# Altium schematic symbol library radxa_cm3_io_board_v1330_Library.SchLib: 84 symbols
Pins are listed as number, name and electrical type; pins without a type are passive.

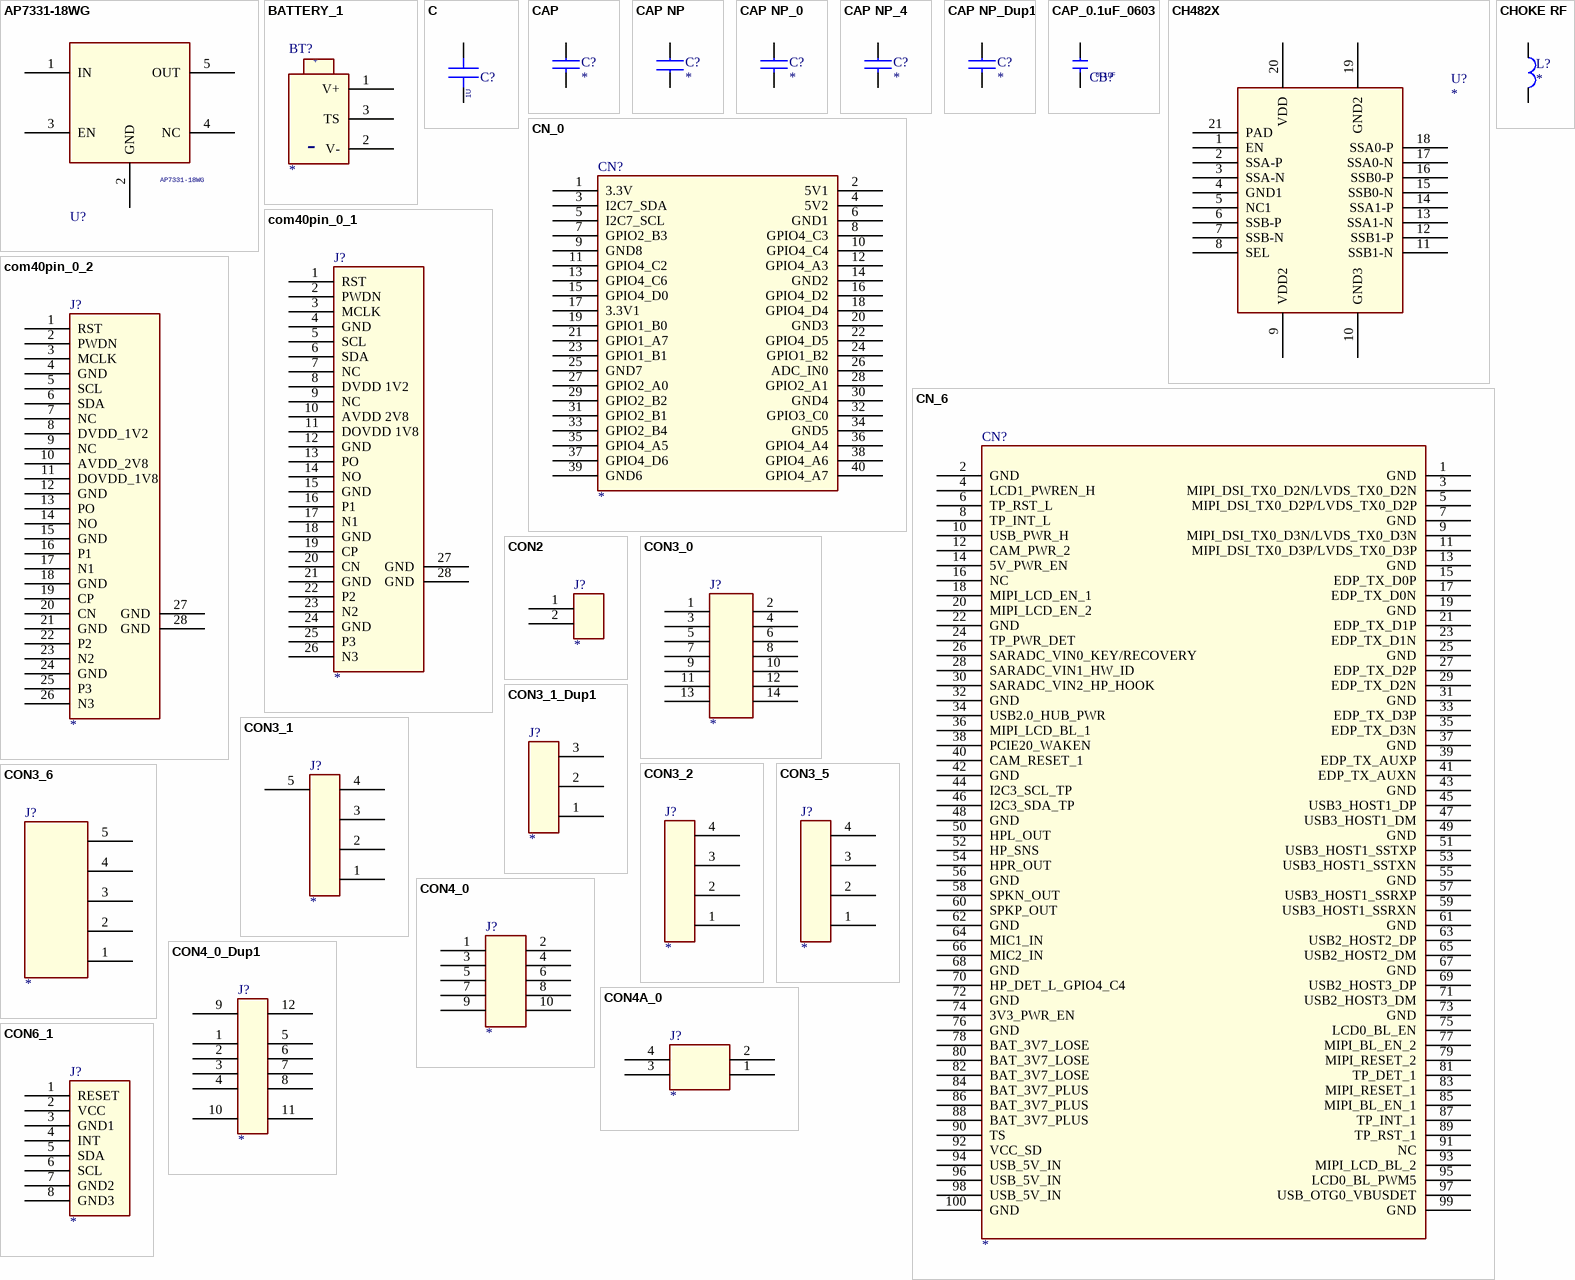
[diagram p0: symbols AP7331-18WG to CON6_1]

## AP7331-18WG
designator U?
footprint SOT25
pins: 1 IN, 2 GND, 3 EN, 4 NC, 5 OUT

## BATTERY_1
designator BT?
pins: 1 V+, 2 V-, 3 TS
text: +; -

## C
designator C?, comment 1U
PARTS: 1; PINSWAP: (A,B); LEVEL: STD; PKG_TYPE: CAP2-100-250; OriginalSymbolOrigin: (0,30)
pins: 1, 2

## CAP
designator C?
pins: 1, 2

## CAP NP
designator C?
footprint C0603
pins: 1, 2

## CAP NP_0
designator C?
pins: 1, 2

## CAP NP_4
designator C?
pins: 1, 2

## CAP NP_Dup1
designator C?
footprint C0402
pins: 1, 2

## CAP_0.1uF_0603
designator CB?, comment 0.1uF
footprint C0603
pins: 1, 2

## CH482X
designator U?
footprint CH482X
pins: 1 EN, 2 SSA-P, 3 SSA-N, 4 GND1, 5 NC1, 6 SSB-P, 7 SSB-N, 8 SEL, 9 VDD2, 10 GND3, 11 SSB1-N, 12 SSB1-P, 13 SSA1-N, 14 SSA1-P, 15 SSB0-N, 16 SSB0-P, 17 SSA0-N, 18 SSA0-P, 19 GND2, 20 VDD, 21 PAD

## CHOKE RF
designator L?
pins: 1, 2

## CN_0
designator CN?
pins: 1 3.3V, 2 5V1, 3 I2C7_SDA, 4 5V2, 5 I2C7_SCL, 6 GND1, 7 GPIO2_B3, 8 GPIO4_C3, 9 GND8, 10 GPIO4_C4, 11 GPIO4_C2, 12 GPIO4_A3, 13 GPIO4_C6, 14 GND2, 15 GPIO4_D0, 16 GPIO4_D2, 17 3.3V1, 18 GPIO4_D4, 19 GPIO1_B0, 20 GND3, 21 GPIO1_A7, 22 GPIO4_D5, 23 GPIO1_B1, 24 GPIO1_B2, 25 GND7, 26 ADC_IN0, 27 GPIO2_A0, 28 GPIO2_A1, 29 GPIO2_B2, 30 GND4, 31 GPIO2_B1, 32 GPIO3_C0, 33 GPIO2_B4, 34 GND5, 35 GPIO4_A5, 36 GPIO4_A4, 37 GPIO4_D6, 38 GPIO4_A6, 39 GND6, 40 GPIO4_A7

## CN_6
designator CN?
pins: 1 GND, 2 GND, 3 MIPI_DSI_TX0_D2N/LVDS_TX0_D2N, 4 LCD1_PWREN_H, 5 MIPI_DSI_TX0_D2P/LVDS_TX0_D2P, 6 TP_RST_L, 7 GND, 8 TP_INT_L, 9 MIPI_DSI_TX0_D3N/LVDS_TX0_D3N, 10 USB_PWR_H, 11 MIPI_DSI_TX0_D3P/LVDS_TX0_D3P, 12 CAM_PWR_2, 13 GND, 14 5V_PWR_EN, 15 EDP_TX_D0P, 16 NC, 17 EDP_TX_D0N, 18 MIPI_LCD_EN_1, 19 GND, 20 MIPI_LCD_EN_2, 21 EDP_TX_D1P, 22 GND, 23 EDP_TX_D1N, 24 TP_PWR_DET, 25 GND, 26 SARADC_VIN0_KEY/RECOVERY, 27 EDP_TX_D2P, 28 SARADC_VIN1_HW_ID, 29 EDP_TX_D2N, 30 SARADC_VIN2_HP_HOOK, 31 GND, 32 GND, 33 EDP_TX_D3P, 34 USB2.0_HUB_PWR, 35 EDP_TX_D3N, 36 MIPI_LCD_BL_1, 37 GND, 38 PCIE20_WAKEN, 39 EDP_TX_AUXP, 40 CAM_RESET_1, 41 EDP_TX_AUXN, 42 GND, 43 GND, 44 I2C3_SCL_TP, 45 USB3_HOST1_DP, 46 I2C3_SDA_TP, 47 USB3_HOST1_DM, 48 GND, 49 GND, 50 HPL_OUT, 51 USB3_HOST1_SSTXP, 52 HP_SNS, 53 USB3_HOST1_SSTXN, 54 HPR_OUT, 55 GND, 56 GND, 57 USB3_HOST1_SSRXP, 58 SPKN_OUT, 59 USB3_HOST1_SSRXN, 60 SPKP_OUT, 61 GND, 62 GND, 63 USB2_HOST2_DP, 64 MIC1_IN, 65 USB2_HOST2_DM, 66 MIC2_IN, 67 GND, 68 GND, 69 USB2_HOST3_DP, 70 HP_DET_L_GPIO4_C4, 71 USB2_HOST3_DM, 72 GND, 73 GND, 74 3V3_PWR_EN, 75 LCD0_BL_EN, 76 GND, 77 MIPI_BL_EN_2, 78 BAT_3V7_LOSE, 79 MIPI_RESET_2, 80 BAT_3V7_LOSE, 81 TP_DET_1, 82 BAT_3V7_LOSE, 83 MIPI_RESET_1, 84 BAT_3V7_PLUS, 85 MIPI_BL_EN_1, 86 BAT_3V7_PLUS, 87 TP_INT_1, 88 BAT_3V7_PLUS, 89 TP_RST_1, 90 TS, 91 NC, 92 VCC_SD, 93 MIPI_LCD_BL_2, 94 USB_5V_IN, 95 LCD0_BL_PWM5, 96 USB_5V_IN, 97 USB_OTG0_VBUSDET, 98 USB_5V_IN, 99 GND, 100 GND

## com40pin_0_1
designator J?
footprint com40pin_0_5
pins: 1 RST, 2 PWDN, 3 MCLK, 4 GND, 5 SCL, 6 SDA, 7 NC, 8 DVDD 1V2, 9 NC, 10 AVDD 2V8, 11 DOVDD 1V8, 12 GND, 13 PO, 14 NO, 15 GND, 16 P1, 17 N1, 18 GND, 19 CP, 20 CN, 21 GND, 22 P2, 23 N2, 24 GND, 25 P3, 26 N3, 27 GND, 28 GND

## com40pin_0_2
designator J?
footprint com40pin_0_5
pins: 1 RST, 2 PWDN, 3 MCLK, 4 GND, 5 SCL, 6 SDA, 7 NC, 8 DVDD_1V2, 9 NC, 10 AVDD_2V8, 11 DOVDD_1V8, 12 GND, 13 PO, 14 NO, 15 GND, 16 P1, 17 N1, 18 GND, 19 CP, 20 CN, 21 GND, 22 P2, 23 N2, 24 GND, 25 P3, 26 N3, 27 GND, 28 GND

## CON2
designator J?
pins: 1, 2

## CON3_0
designator J?
pins: 1, 2, 3, 4, 5, 6, 7, 8, 9, 10, 11, 12, 13, 14

## CON3_1
designator J?
pins: 1, 2, 3, 4, 5

## CON3_1_Dup1
designator J?
pins: 1, 2, 3

## CON3_2
designator J?
pins: 1, 2, 3, 4

## CON3_5
designator J?
pins: 1, 2, 3, 4

## CON3_6
designator J?
pins: 1, 2, 3, 4, 5

## CON4_0
designator J?
pins: 1, 2, 3, 4, 5, 6, 7, 8, 9, 10

## CON4_0_Dup1
designator J?
pins: 1, 2, 3, 4, 5, 6, 7, 8, 9, 10, 11, 12

## CON4A_0
designator J?
pins: 1, 2, 3, 4

## CON6_1
designator J?
pins: 1 RESET, 2 VCC, 3 GND1, 4 INT, 5 SDA, 6 SCL, 7 GND2, 8 GND3

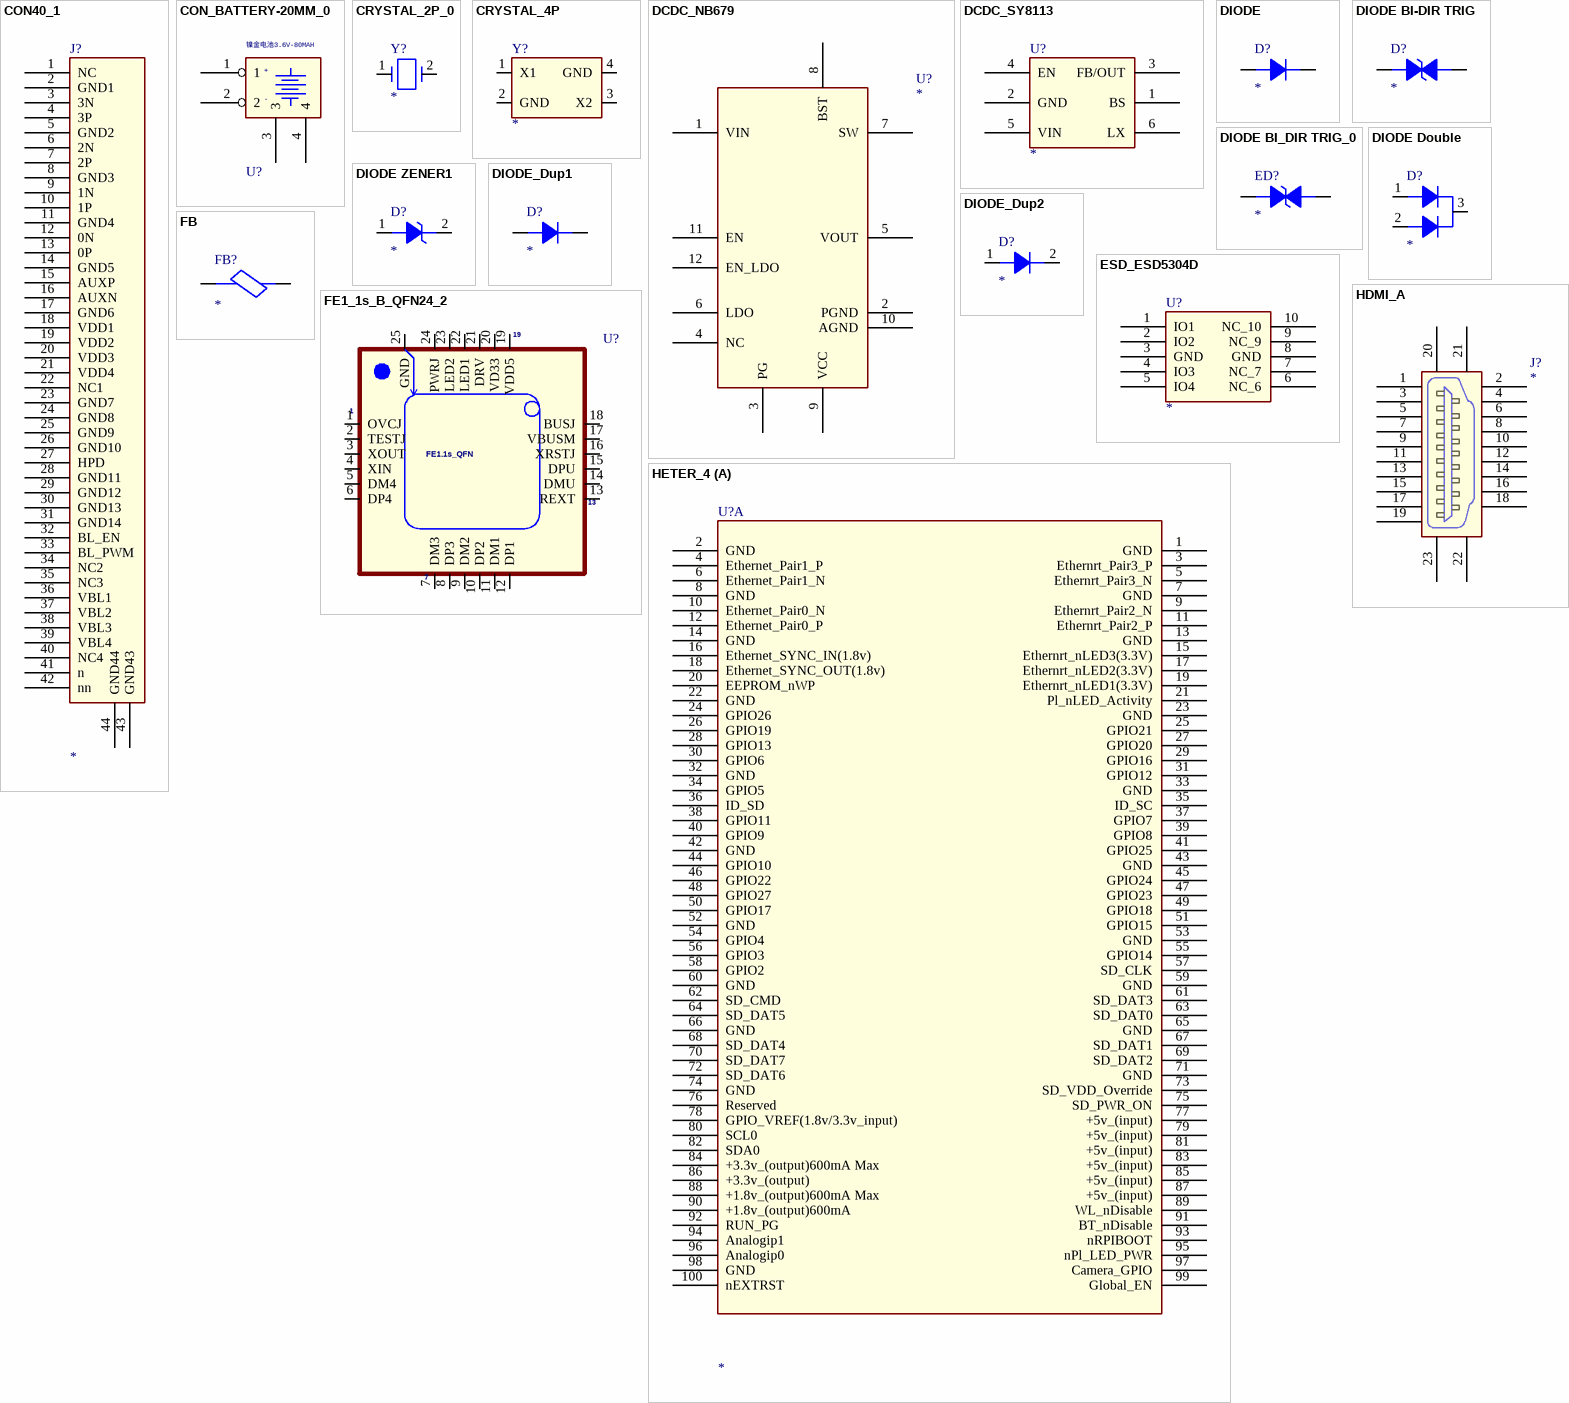
[diagram p1: symbols CON40_1 to HETER_4]

## CON40_1
designator J?
pins: 1 NC, 2 GND1, 3 3N, 4 3P, 5 GND2, 6 2N, 7 2P, 8 GND3, 9 1N, 10 1P, 11 GND4, 12 0N, 13 0P, 14 GND5, 15 AUXP, 16 AUXN, 17 GND6, 18 VDD1, 19 VDD2, 20 VDD3, 21 VDD4, 22 NC1, 23 GND7, 24 GND8, 25 GND9, 26 GND10, 27 HPD, 28 GND11, 29 GND12, 30 GND13, 31 GND14, 32 BL_EN, 33 BL_PWM, 34 NC2, 35 NC3, 36 VBL1, 37 VBL2, 38 VBL3, 39 VBL4, 40 NC4, 41 n, 42 nn, 43 GND43, 44 GND44

## CON_BATTERY-20MM_0
designator U?, comment 镍金电池3.6V-80MAH
footprint BATTERY-20MM
pins: 1, 2, 3, 4
text: +; -

## CRYSTAL_2P_0
designator Y?
pins: 1, 2

## CRYSTAL_4P
designator Y?
footprint CRY-3225
pins: 1 X1, 2 GND (power), 3 X2, 4 GND (power)

## DCDC_NB679
designator U?
footprint QFN12_3R00X2R00X0R90
pins: 1 VIN, 2 PGND, 3 PG, 4 NC, 5 VOUT, 6 LDO, 7 SW, 8 BST, 9 VCC, 10 AGND, 11 EN, 12 EN_LDO

## DCDC_SY8113
designator U?
pins: 1 BS, 2 GND, 3 FB/OUT, 4 EN, 5 VIN, 6 LX

## DIODE
designator D?
pins: 1 A, 2 K

## DIODE BI-DIR TRIG
designator D?
pins: 1, 2

## DIODE BI_DIR TRIG_0
designator ED?
pins: 1, 2

## DIODE Double
designator D?
pins: 1 A1, 2 A2, 3 K

## DIODE ZENER1
designator D?
pins: 1 ANODE, 2 CATHODE

## DIODE_Dup1
designator D?
pins: 1 A, 2 K

## DIODE_Dup2
designator D?
pins: 1 A, 2 K

## ESD_ESD5304D
designator U?
pins: 1 IO1, 2 IO2, 3 GND (power), 4 IO3, 5 IO4, 6 NC_6, 7 NC_7, 8 GND (power), 9 NC_9, 10 NC_10

## FB
designator FB?
pins: 1, 2

## FE1_1s_B_QFN24_2
designator U?, comment FE1.1s_QFN
pins: 1 OVCJ, 2 TESTJ, 3 XOUT, 4 XIN, 5 DM4, 6 DP4, 7 DM3, 8 DP3, 9 DM2, 10 DP2, 11 DM1, 12 DP1, 13 REXT, 14 DMU, 15 DPU, 16 XRSTJ, 17 VBUSM, 18 BUSJ, 19 VDD5, 20 VD33, 21 DRV, 22 LED1, 23 LED2, 24 PWRJ, 25 GND (power)

## HDMI_A
designator J?
pins: 1 $PIN0, 2, 3, 4, 5, 6, 7, 8, 9, 10, 11, 12, 13, 14, 15, 16, 17, 18, 19, 20, 21, 22, 23

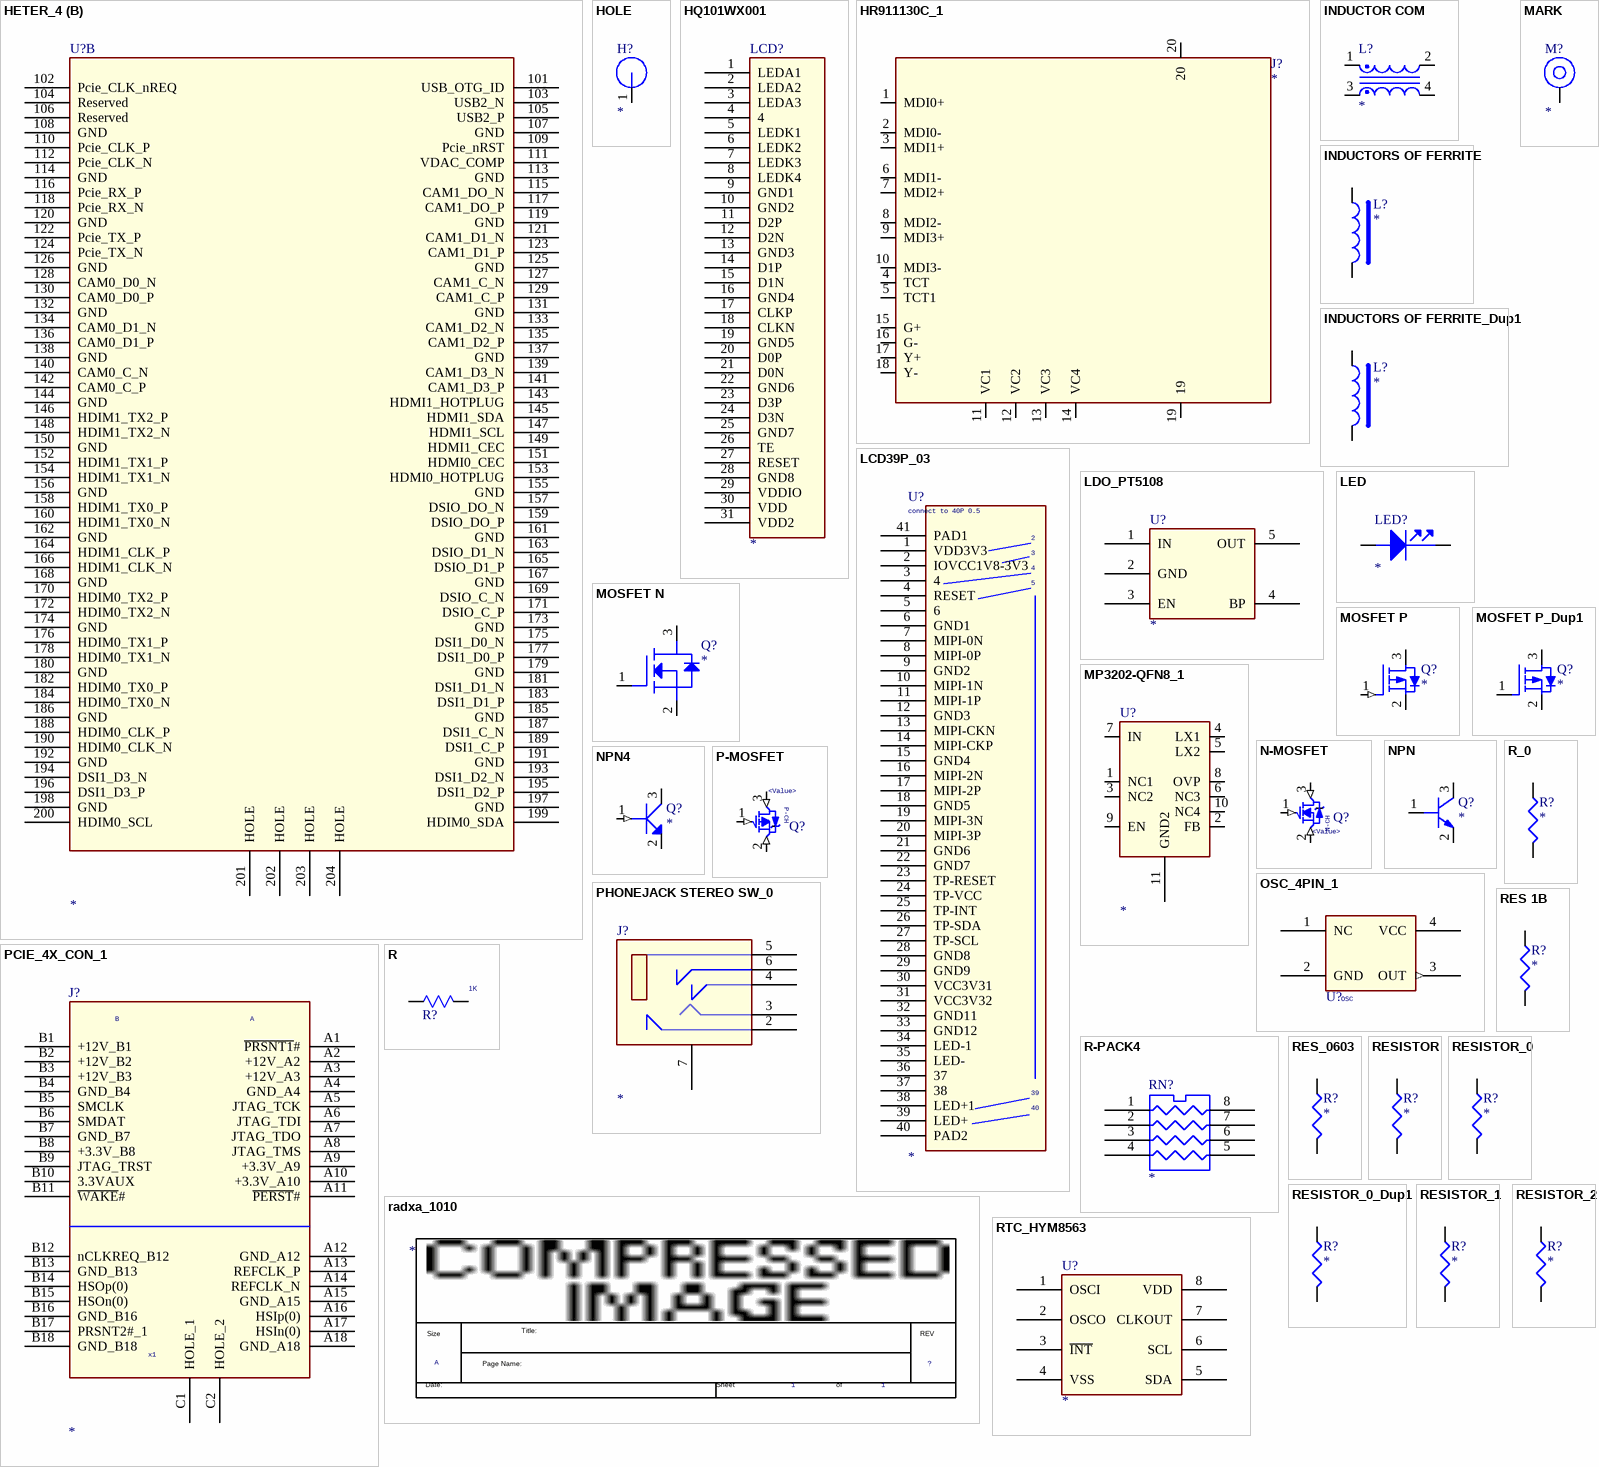
[diagram p2: symbols HETER_4 to RTC_HYM8563]

## HETER_4
designator U?
part A pins: 1 GND, 2 GND, 3 Ethernrt_Pair3_P, 4 Ethernet_Pair1_P, 5 Ethernrt_Pair3_N, 6 Ethernet_Pair1_N, 7 GND, 8 GND, 9 Ethernrt_Pair2_N, 10 Ethernet_Pair0_N, 11 Ethernrt_Pair2_P, 12 Ethernet_Pair0_P, 13 GND, 14 GND, 15 Ethernrt_nLED3(3.3V), 16 Ethernet_SYNC_IN(1.8v), 17 Ethernrt_nLED2(3.3V), 18 Ethernet_SYNC_OUT(1.8v), 19 Ethernrt_nLED1(3.3V), 20 EEPROM_nWP, 21 Pl_nLED_Activity, 22 GND, 23 GND, 24 GPIO26, 25 GPIO21, 26 GPIO19, 27 GPIO20, 28 GPIO13, 29 GPIO16, 30 GPIO6, 31 GPIO12, 32 GND, 33 GND, 34 GPIO5, 35 ID_SC, 36 ID_SD, 37 GPIO7, 38 GPIO11, 39 GPIO8, 40 GPIO9, 41 GPIO25, 42 GND, 43 GND, 44 GPIO10, 45 GPIO24, 46 GPIO22, 47 GPIO23, 48 GPIO27, 49 GPIO18, 50 GPIO17, 51 GPIO15, 52 GND, 53 GND, 54 GPIO4, 55 GPIO14, 56 GPIO3, 57 SD_CLK, 58 GPIO2, 59 GND, 60 GND, 61 SD_DAT3, 62 SD_CMD, 63 SD_DAT0, 64 SD_DAT5, 65 GND, 66 GND, 67 SD_DAT1, 68 SD_DAT4, 69 SD_DAT2, 70 SD_DAT7, 71 GND, 72 SD_DAT6, 73 SD_VDD_Override, 74 GND, 75 SD_PWR_ON, 76 Reserved, 77 +5v_(input), 78 GPIO_VREF(1.8v/3.3v_input), 79 +5v_(input), 80 SCL0, 81 +5v_(input), 82 SDA0, 83 +5v_(input), 84 +3.3v_(output)600mA Max, 85 +5v_(input), 86 +3.3v_(output), 87 +5v_(input), 88 +1.8v_(output)600mA Max, 89 WL_nDisable, 90 +1.8v_(output)600mA , 91 BT_nDisable, 92 RUN_PG, 93 nRPIBOOT, 94 Analogip1, 95 nPl_LED_PWR, 96 Analogip0, 97 Camera_GPIO, 98 GND, 99 Global_EN, 100 nEXTRST
part B pins: 101 USB_OTG_ID, 102 Pcie_CLK_nREQ, 103 USB2_N, 104 Reserved, 105 USB2_P, 106 Reserved, 107 GND, 108 GND, 109 Pcie_nRST, 110 Pcie_CLK_P, 111 VDAC_COMP, 112 Pcie_CLK_N, 113 GND, 114 GND, 115 CAM1_DO_N, 116 Pcie_RX_P, 117 CAM1_DO_P, 118 Pcie_RX_N, 119 GND, 120 GND, 121 CAM1_D1_N, 122 Pcie_TX_P, 123 CAM1_D1_P, 124 Pcie_TX_N, 125 GND, 126 GND, 127 CAM1_C_N, 128 CAM0_D0_N, 129 CAM1_C_P, 130 CAM0_D0_P, 131 GND, 132 GND, 133 CAM1_D2_N, 134 CAM0_D1_N, 135 CAM1_D2_P, 136 CAM0_D1_P, 137 GND, 138 GND, 139 CAM1_D3_N, 140 CAM0_C_N, 141 CAM1_D3_P, 142 CAM0_C_P, 143 HDMI1_HOTPLUG, 144 GND, 145 HDMI1_SDA, 146 HDIM1_TX2_P, 147 HDMI1_SCL, 148 HDIM1_TX2_N, 149 HDMI1_CEC, 150 GND, 151 HDMI0_CEC, 152 HDIM1_TX1_P, 153 HDMI0_HOTPLUG, 154 HDIM1_TX1_N, 155 GND, 156 GND, 157 DSIO_DO_N, 158 HDIM1_TX0_P, 159 DSIO_DO_P, 160 HDIM1_TX0_N, 161 GND, 162 GND, 163 DSIO_D1_N, 164 HDIM1_CLK_P, 165 DSIO_D1_P, 166 HDIM1_CLK_N, 167 GND, 168 GND, 169 DSIO_C_N, 170 HDIM0_TX2_P, 171 DSIO_C_P, 172 HDIM0_TX2_N, 173 GND, 174 GND, 175 DSI1_D0_N, 176 HDIM0_TX1_P, 177 DSI1_D0_P, 178 HDIM0_TX1_N, 179 GND, 180 GND, 181 DSI1_D1_N, 182 HDIM0_TX0_P, 183 DSI1_D1_P, 184 HDIM0_TX0_N, 185 GND, 186 GND, 187 DSI1_C_N, 188 HDIM0_CLK_P, 189 DSI1_C_P, 190 HDIM0_CLK_N, 191 GND, 192 GND, 193 DSI1_D2_N, 194 DSI1_D3_N, 195 DSI1_D2_P, 196 DSI1_D3_P, 197 GND, 198 GND, 199 HDIM0_SDA, 200 HDIM0_SCL, 201 HOLE, 202 HOLE, 203 HOLE, 204 HOLE

## HOLE
designator H?
footprint H3.8MM
pins: 1

## HQ101WX001
designator LCD?
footprint HQ101WX001
pins: 1 LEDA1, 2 LEDA2, 3 LEDA3, 4, 5 LEDK1, 6 LEDK2, 7 LEDK3, 8 LEDK4, 9 GND1, 10 GND2, 11 D2P, 12 D2N, 13 GND3, 14 D1P, 15 D1N, 16 GND4, 17 CLKP, 18 CLKN, 19 GND5, 20 D0P, 21 D0N, 22 GND6, 23 D3P, 24 D3N, 25 GND7, 26 TE, 27 RESET, 28 GND8, 29 VDDIO, 30 VDD, 31 VDD2

## HR911130C_1
designator J?
DEV: CON_PULSE_J00-61; FAB: PULSE; BOI: RJ45; DESIG: 10/100 base TX LXT971A; REF: J00-0061; VAL: J00-0061
footprint RJ45_PULSE
pins: 1 MDI0+, 2 MDI0-, 3 MDI1+, 4 TCT, 5 TCT1, 6 MDI1-, 7 MDI2+, 8 MDI2-, 9 MDI3+, 10 MDI3-, 11 VC1, 12 VC2, 13 VC3, 14 VC4, 15 G+, 16 G-, 17 Y+, 18 Y-, 19, 20

## INDUCTOR COM
designator L?
footprint L0402D
pins: 1, 2, 3, 4

## INDUCTORS OF FERRITE
designator L?
pins: 1, 2

## INDUCTORS OF FERRITE_Dup1
designator L?
pins: 1, 2

## LCD39P_03
designator U?
pins: 1 VDD3V3, 2 IOVCC1V8-3V3, 3 4, 4 RESET, 5 6, 6 GND1, 7 MIPI-0N, 8 MIPI-0P, 9 GND2, 10 MIPI-1N, 11 MIPI-1P, 12 GND3, 13 MIPI-CKN, 14 MIPI-CKP, 15 GND4, 16 MIPI-2N, 17 MIPI-2P, 18 GND5, 19 MIPI-3N, 20 MIPI-3P, 21 GND6, 22 GND7, 23 TP-RESET, 24 TP-VCC, 25 TP-INT, 26 TP-SDA, 27 TP-SCL, 28 GND8, 29 GND9, 30 VCC3V31, 31 VCC3V32, 32 GND11, 33 GND12, 34 LED-1, 35 LED-, 36 37, 37 38, 38 LED+1, 39 LED+, 40 PAD2, 41 PAD1
text: connect to 40P 0.5

## LDO_PT5108
designator U?
pins: 1 IN, 2 GND, 3 EN, 4 BP, 5 OUT

## LED
designator LED?
pins: 1 ANODE, 2 CATHODE

## MARK
designator M?
pins: 1

## MOSFET N
designator Q?
footprint SOT23
pins: 1 GATE, 2 SOURCE, 3 DRAIN

## MOSFET P
designator Q?
footprint SOT23
pins: 1 GATE (in), 2 SOURCE, 3 DRAIN

## MOSFET P_Dup1
designator Q?
footprint SOT23
pins: 1 GATE, 2 SOURCE, 3 DRAIN

## MP3202-QFN8_1
designator U?
footprint QFN8-2X2
pins: 1 NC1, 2 FB, 3 NC2, 4 LX1, 5 LX2, 6 NC3, 7 IN, 8 OVP, 9 EN, 10 NC4, 11 GND2

## N-MOSFET
designator Q?, comment <Value>
footprint S0T-23
pins: 1 G (in), 2 S (in), 3 D (in)
text: N-CH

## NPN
designator Q?
pins: 1 BASE, 2 EMITTER, 3 COLLECTOR

## NPN4
designator Q?
footprint SOT23
pins: 1 B (in), 2 E, 3 C

## OSC_4PIN_1
designator U?, comment OSC
pins: 1 NC, 2 GND (power), 3 OUT (out), 4 VCC (power)

## P-MOSFET
designator Q?, comment <Value>
footprint S0T-23
pins: 1 G (in), 2 S (in), 3 D (in)
text: P-CH

## PCIE_4X_CON_1
designator J?
pins: A1 ~{PRSNT1}#, A2 +12V_A2, A3 +12V_A3, A4 GND_A4, A5 JTAG_TCK, A6 JTAG_TDI, A7 JTAG_TDO, A8 JTAG_TMS, A9 +3.3V_A9, A10 +3.3V_A10, A11 ~{PERST}#, A12 GND_A12, A13 REFCLK_P, A14 REFCLK_N, A15 GND_A15, A16 HSIp(0), A17 HSIn(0), A18 GND_A18, B1 +12V_B1, B2 +12V_B2, B3 +12V_B3, B4 GND_B4, B5 SMCLK, B6 SMDAT, B7 GND_B7, B8 +3.3V_B8, B9 JTAG_TRST, B10 3.3VAUX, B11 ~{WAKE}#, B12 nCLKREQ_B12, B13 GND_B13, B14 HSOp(0), B15 HSOn(0), B16 GND_B16, B17 PRSNT2#_1, B18 GND_B18, C1 HOLE_1, C2 HOLE_2
text: B; A; x1

## PHONEJACK STEREO SW_0
designator J?
pins: 2 DH, 3 R, 4 L, 5 D, 6 HP, 7 NC2

## R
designator R?, comment 1K
PARTS: 1; OriginalSymbolOrigin: (10,20); PINSWAP: (A,B); PKG_TYPE: 2; LEVEL: STD
pins: 1, 2

## R-PACK4
designator RN?
pins: 1 R1, 2 R2, 3 R3, 4 R4, 5 R4, 6 R3, 7 R2, 8 R1

## R_0
designator R?
pins: 1, 2

## radxa_1010
designator *  Page Count: 1  Page Size: A  (graphical)
Page Number: 1; RevCode: ?; Page Create Date: March  8, 1995
text: Title:; Size; REV; Page Name:; Date:; Sheet; of

## RES 1B
designator R?
pins: 1, 2

## RES_0603
designator R?
footprint R0603
pins: 1, 2

## RESISTOR
designator R?
pins: 1, 2

## RESISTOR_0
designator R?
footprint R0402
pins: 1, 2

## RESISTOR_0_Dup1
designator R?
pins: 1, 2

## RESISTOR_1
designator R?
pins: 1, 2

## RESISTOR_2
designator R?
footprint R0402
pins: 1, 2

## RTC_HYM8563
designator U?
pins: 1 OSCI, 2 OSCO, 3 ~{INT}, 4 VSS, 5 SDA, 6 SCL, 7 CLKOUT, 8 VDD

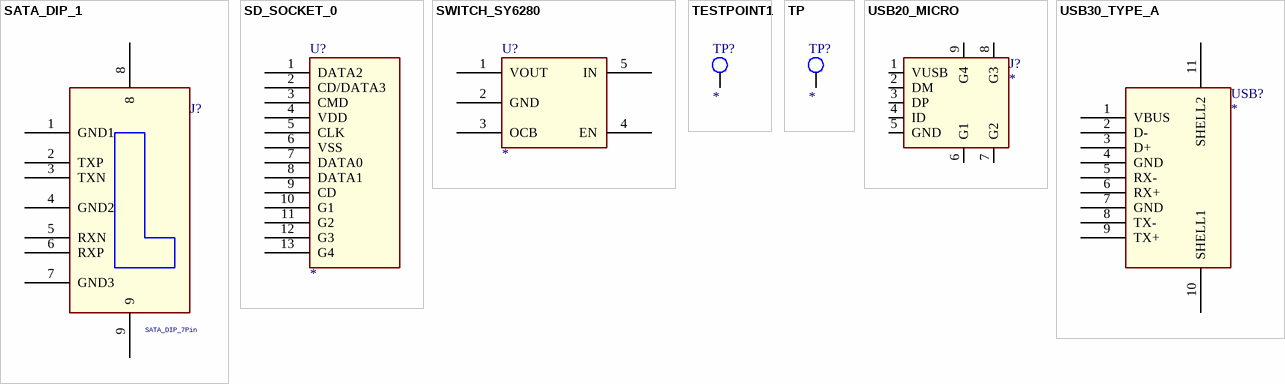
[diagram p3: symbols SATA_DIP_1 to USB30_TYPE_A]

## SATA_DIP_1
designator J?, comment SATA_DIP_7Pin
pins: 1 GND1, 2 TXP, 3 TXN, 4 GND2, 5 RXN, 6 RXP, 7 GND3, 8, 9

## SD_SOCKET_0
designator U?
pins: 1 DATA2, 2 CD/DATA3, 3 CMD, 4 VDD, 5 CLK, 6 VSS, 7 DATA0, 8 DATA1, 9 CD, 10 G1, 11 G2, 12 G3, 13 G4

## SWITCH_SY6280
designator U?
pins: 1 VOUT, 2 GND, 3 OCB, 4 EN, 5 IN

## TESTPOINT1
designator TP?
footprint TEST
pins: 1

## TP
designator TP?
footprint TEST
pins: 1

## USB20_MICRO
designator J?
footprint USB-5PAA
pins: 1 VUSB, 2 DM, 3 DP, 4 ID, 5 GND, 6 G1, 7 G2, 8 G3, 9 G4

## USB30_TYPE_A
designator USB?
footprint USB30
pins: 1 VBUS (power), 2 D-, 3 D+, 4 GND (power), 5 RX-, 6 RX+, 7 GND (power), 8 TX-, 9 TX+, 10 SHELL1, 11 SHELL2